# Altium integrated library Altera Cyclone III.IntLib: 225 symbols (part 38 of 50)
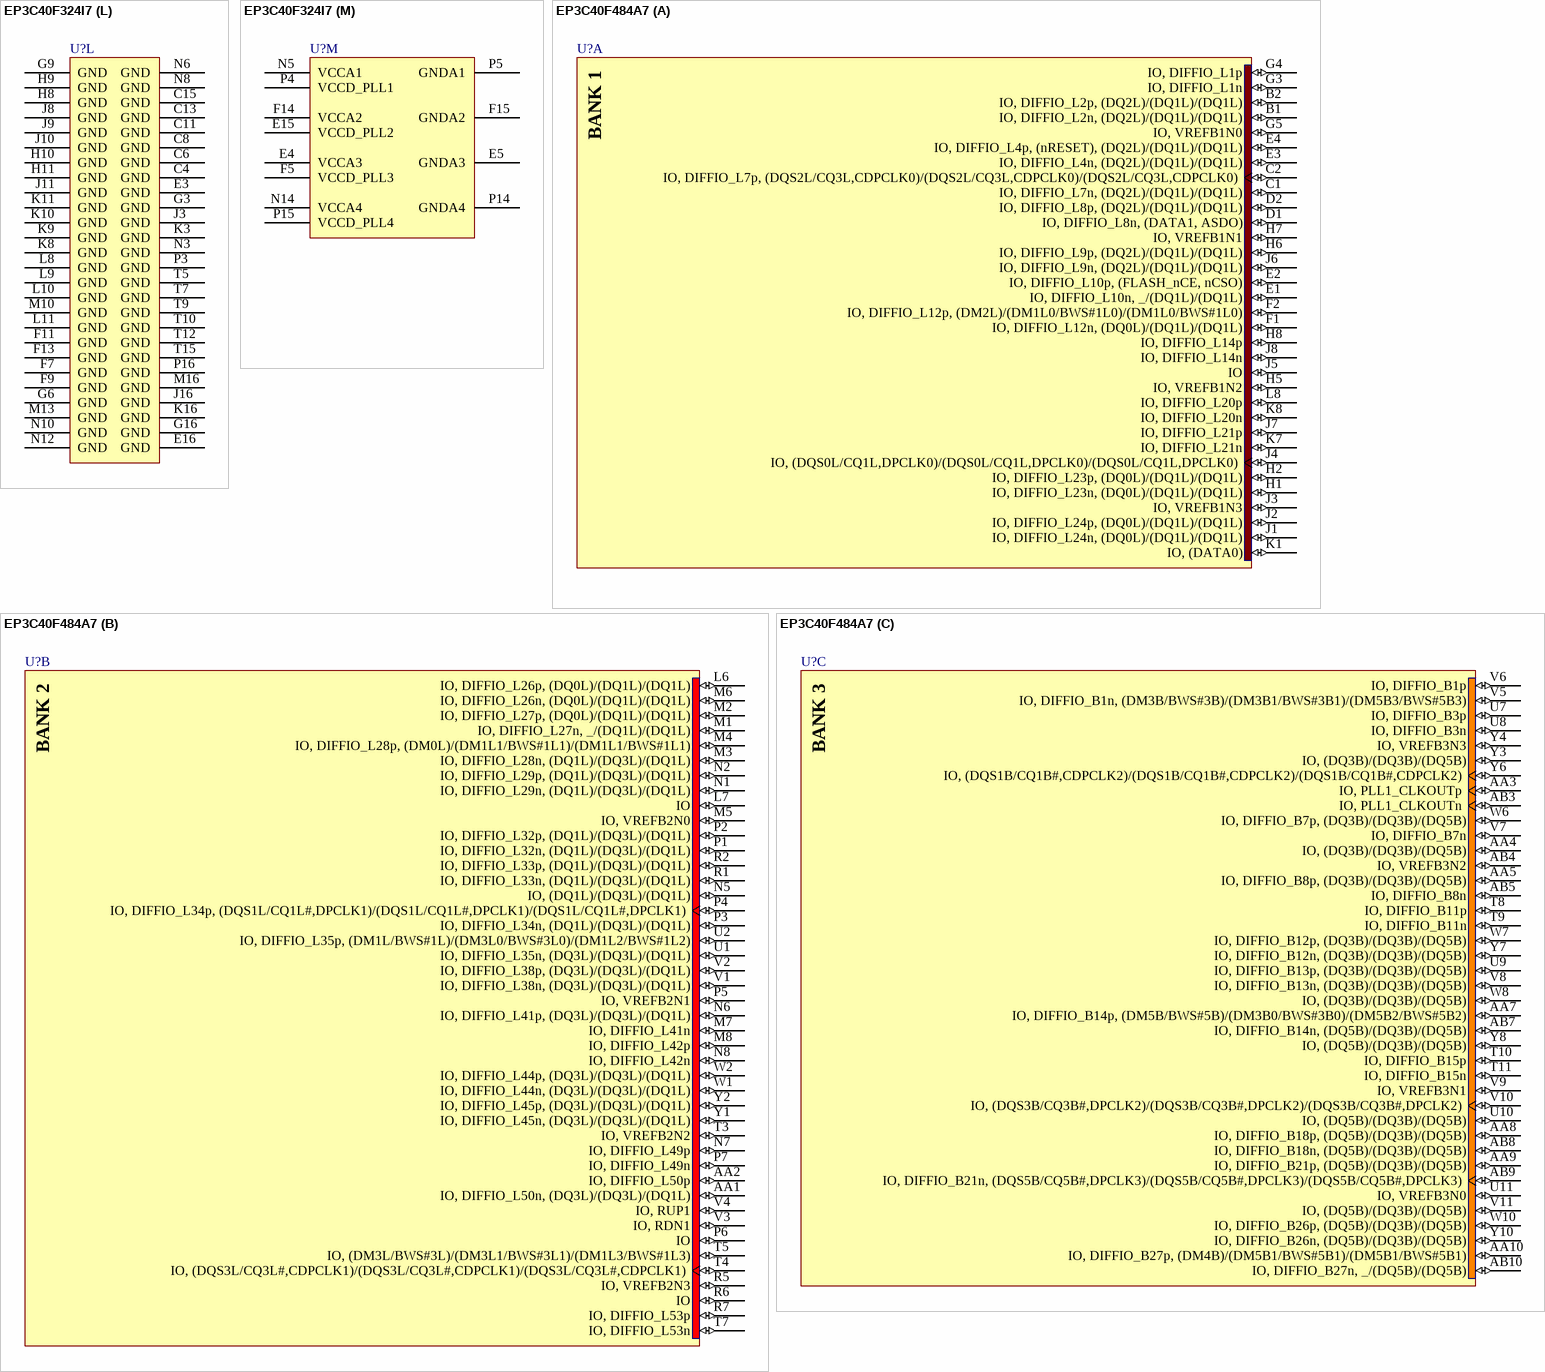
[diagram p522: symbols EP3C40F324I7 to EP3C40F484A7]

## EP3C40F324I7
designator U?
Cyclone III Family FPGA, 195 I/O Pins, 4 PLLs, 324-Pin FBGA, Speed Grade 7, Industrial Grade; Published: 26-Feb-2007; DatasheetVersion: ver2.0, May-2008; PackageVersion: ver16.0, Dec-2009; PackageReference: FBGA324; Publisher: Altium Limited; PackageDescription: 324-Ball FineLine Ball Grid Array (FBGA324) - Wire Bond; Supplier 1: Digi-Key; Supplier Part Number 1: EP3C40F324I7-ND; Code_JEDEC: MS-034-AAG-1; Code_IPC: BGA100P18X18-324; ComponentLink1Description: Manufacturer Link; ComponentLink1URL: http://www.altera.com/; ComponentLink2Description: Handbook (7.86MB); ComponentLink2URL: http://www.altera.com/literature/hb/cyc3/cyclone3_handbook.pdf; ComponentLink3Description: Packaging Specification; ComponentLink3URL: http://www.altera.com/literature/ds/dspkg.pdf
footprint FBGA324 (BGA, 324-Leads, Body 19x19mm, Pitch 1mm)
3D model EP3C40-FBGA324 (324-Ball FineLine Ball Grid Array (FBGA324) - Wire Bond)
signal-integrity model EP3C40_F324 (Cyclone III)
part A pins: B1 IO, DIFFIO_L1n (io), B2 IO, DIFFIO_L1p, (DQ1L)/(DQ1L) (io), C1 IO, (DQ1L)/(DQ1L) (io), C2 IO, VREFB1N0 (io), C3 IO, (nRESET) (io), D1 IO, DIFFIO_L8n, (DATA1, ASDO) (io), D2 IO, DIFFIO_L8p, (DQ1L)/(DQ1L) (io), D3 IO, (DQS2L/CQ3L,CDPCLK0)/(DQS2L/CQ3L,CDPCLK0) (io), E1 IO, DIFFIO_L10n, (DQ1L)/(DQ1L) (io), E2 IO, DIFFIO_L10p, (FLASH_nCE, nCSO) (io), F3 IO, VREFB1N1 (io), G1 IO, DIFFIO_L20n, (DQ1L)/(DQ1L) (io), G2 IO, DIFFIO_L20p, (DQ1L)/(DQ1L) (io), H1 IO, VREFB1N3 (io), H2 IO, (DQS0L/CQ1L,DPCLK0)/(DQS0L/CQ1L,DPCLK0) (io), H3 IO, (DATA0) (io), H6 IO, VREFB1N2 (io)
part B pins: K1 IO, DIFFIO_L26n, (DQ1L)/(DQ1L) (io), K2 IO, DIFFIO_L26p, (DQ1L)/(DQ1L) (io), K5 IO, DIFFIO_L28p, (DQ1L)/(DQ1L) (io), L1 IO, DIFFIO_L32n, (DQ3L)/(DQ1L) (io), L2 IO, DIFFIO_L32p, (DQ3L)/(DQ1L) (io), L3 IO, DIFFIO_L33n, (DQ3L)/(DQ1L) (io), L4 IO, DIFFIO_L33p, (DQ3L)/(DQ1L) (io), L5 IO, DIFFIO_L28n, (DM1L/BWS#1L)/(DM1L0/BWS#1L0) (io), L6 IO, VREFB2N0 (io), M1 IO, DIFFIO_L34n (io), M2 IO, DIFFIO_L34p, (DQS1L/CQ1L#,DPCLK1)/(DQS1L/CQ1L#,DPCLK1) (io), M3 IO, VREFB2N1 (io), M5 IO, (DQS3L/CQ3L#,CDPCLK1)/(DQS3L/CQ3L#,CDPCLK1) (io), P1 IO, DIFFIO_L44n, (DQ3L)/(DQ1L) (io), P2 IO, DIFFIO_L44p, (DQ3L)/(DQ1L) (io), R1 IO, VREFB2N2 (io), R2 IO, (DQ3L)/(DQ1L) (io), R3 IO, DIFFIO_L52n, (DQ3L)/(DQ1L) (io), R4 IO, (DM3L/BWS#3L)/(DM1L1/BWS#1L1) (io), R5 IO, VREFB2N3 (io), T1 IO, RDN1 (io), T2 IO, RUP1 (io), T3 IO, DIFFIO_L52p, (DQ3L)/(DQ1L) (io)
part C pins: P6 IO, (DQS1B/CQ1B#,CDPCLK2)/(DQS1B/CQ1B#,CDPCLK2) (io), P7 IO, VREFB3N1 (io), P8 IO, VREFB3N0 (io), P9 IO, (DQ3B)/(DQ5B) (io), R8 IO, DIFFIO_B21p, (DQ3B)/(DQ5B) (io), T4 IO, VREFB3N3 (io), T6 IO, VREFB3N2 (io), T8 IO, DIFFIO_B21n, (DQS5B/CQ5B#,DPCLK3)/(DQS5B/CQ5B#,DPCLK3) (io), U1 IO, DIFFIO_B1p (io), U2 IO, PLL1_CLKOUTp (io), U3 IO, DIFFIO_B16p, (DQS3B/CQ3B#,DPCLK2)/(DQS3B/CQ3B#,DPCLK2) (io), U4 IO, DIFFIO_B17p, (DQ3B)/(DQ5B) (io), U5 IO, DIFFIO_B18p (io), U6 IO, DIFFIO_B24p, (DQ3B)/(DQ5B) (io), U7 IO, DIFFIO_B26p (io), U8 IO, DIFFIO_B27p, (DQ3B)/(DQ5B) (io), V1 IO, DIFFIO_B1n (io), V2 IO, PLL1_CLKOUTn (io), V3 IO, DIFFIO_B16n, (DM3B/BWS#3B)/(DM5B1/BWS#5B1) (io), V4 IO, DIFFIO_B17n, (DQ3B)/(DQ5B) (io), V5 IO, DIFFIO_B18n, (DQ3B)/(DQ5B) (io), V6 IO, DIFFIO_B24n, (DQ3B)/(DQ5B) (io), V7 IO, DIFFIO_B26n, (DQ3B)/(DQ5B) (io), V8 IO, DIFFIO_B27n, (DM5B/BWS#5B)/(DM5B0/BWS#5B0) (io)
part D pins: P10 IO, DIFFIO_B33p, (DQ5B)/(DQ5B) (io), P11 IO, DIFFIO_B33n (io), P12 IO, (DQS2B/CQ3B,DPCLK5)/(DQS2B/CQ3B,DPCLK5) (io), P13 IO, VREFB4N0 (io), R11 IO, (DQ5B)/(DQ5B) (io), R13 IO, (DQS0B/CQ1B,CDPCLK3)/(DQS0B/CQ1B,CDPCLK3) (io), T11 IO, VREFB4N2 (io), T13 IO, RUP2 (io), T14 IO, RDN2 (io), U11 IO, DIFFIO_B28p, (DQ5B)/(DQ5B) (io), U12 IO, (DQ5B)/(DQ5B) (io), U13 IO, DIFFIO_B32p, (DQ5B)/(DQ5B) (io), U14 IO, DIFFIO_B34p, (DQ5B)/(DQ5B) (io), U15 IO, DIFFIO_B35p (io), U16 IO, VREFB4N1 (io), U17 IO, DIFFIO_B47p (io), U18 IO, PLL4_CLKOUTp (io), V11 IO, DIFFIO_B28n (io), V12 IO, VREFB4N3 (io), V13 IO, DIFFIO_B32n, (DQS4B/CQ5B,DPCLK4)/(DQS4B/CQ5B,DPCLK4) (io), V14 IO, DIFFIO_B34n, (DQ5B)/(DQ5B) (io), V15 IO, DIFFIO_B35n, (DQ5B)/(DQ5B) (io), V16 IO, (DQ5B)/(DQ5B) (io), V17 IO, DIFFIO_B47n (io), V18 IO, PLL4_CLKOUTn (io)
part E pins: K17 IO, DIFFIO_R29p, (DQ1R)/(DQ1R) (io), K18 IO, DIFFIO_R29n, (DM1R/BWS#1R)/(DM1R0/BWS#1R0) (io), L13 IO, DIFFIO_R38p, (DQ3R)/(DQ1R) (io), L14 IO, DIFFIO_R36p, (DQ3R)/(DQ1R) (io), L15 IO, DIFFIO_R36n, (DQ3R)/(DQ1R) (io), L16 IO, DIFFIO_R33p, (DQS1R/CQ1R#,DPCLK6)/(DQS1R/CQ1R#,DPCLK6) (io), L17 IO, DIFFIO_R32p, (DEV_CLRn) (io), L18 IO, VREFB5N0 (io), M14 IO, DIFFIO_R38n, (DQ3R)/(DQ1R) (io), M17 IO, DIFFIO_R33n, (DQ3R)/(DQ1R) (io), M18 IO, DIFFIO_R32n, (DEV_OE) (io), N15 IO, (DM3R/BWS#3R)/(DM1R1/BWS#1R1) (io), N16 IO, VREFB5N1 (io), P17 IO, DIFFIO_R42p, (DQ3R)/(DQ1R) (io), P18 IO, DIFFIO_R42n, (DQ3R)/(DQ1R) (io), R16 IO, RDN3 (io), R17 IO, VREFB5N2 (io), R18 IO, VREFB5N3 (io), T16 IO, RUP3, (DQ3R)/(DQ1R) (io), T17 IO, (DQ3R)/(DQ1R) (io), T18 IO, (DQS3R/CQ3R#,CDPCLK4)/(DQS3R/CQ3R#,CDPCLK4) (io)
part F pins: B17 IO, VREFB6N0 (io), B18 IO, (PADD20), (DQS2R/CQ3R,CDPCLK5)/(DQS2R/CQ3R,CDPCLK5) (io), C17 IO, DIFFIO_R5p, (PADD21), (DQ1R)/(DQ1R) (io), C18 IO, DIFFIO_R5n, (PADD22), (DQ1R)/(DQ1R) (io), D17 IO, DIFFIO_R12p, (nOE), (DQ1R)/(DQ1R) (io), D18 IO, DIFFIO_R12n, (nWE), (DQ1R)/(DQ1R) (io), E17 IO, DIFFIO_R24p, (CLKUSR) (io), E18 IO, DIFFIO_R24n, (nCEO) (io), G14 IO, (PADD23), (DQ1R)/(DQ1R) (io), G17 IO, DIFFIO_R27p, (CRC_ERROR) (io), G18 IO, DIFFIO_R27n, (INIT_DONE) (io), H13 IO, DIFFIO_R8p, (RDY), (DQ1R)/(DQ1R) (io), H14 IO, DIFFIO_R8n, (nAVD), (DQ1R)/(DQ1R) (io), H15 IO, VREFB6N1 (io), H16 IO, (DQS0R/CQ1R,DPCLK7)/(DQS0R/CQ1R,DPCLK7) (io), H17 IO, (DQ1R)/(DQ1R) (io), H18 IO, VREFB6N2 (io), J13 IO, VREFB6N3 (io)
part G pins: A11 IO, DIFFIO_T29n, (PADD11), (DQ5T)/(DQ5T) (io), A12 IO, DIFFIO_T31n, (PADD9), (DQ5T)/(DQ5T) (io), A13 IO, DIFFIO_T35n, (PADD7) (io), A14 IO, DIFFIO_T36n, (PADD5), (DQ5T)/(DQ5T) (io), A15 IO, (PADD3), (DQ5T)/(DQ5T) (io), A16 IO, DIFFIO_T41n, (PADD1) (io), A17 IO, VREFB7N0 (io), A18 IO, (DQ5T)/(DQ5T) (io), B11 IO, DIFFIO_T29p, (PADD12), (DQS4T/CQ5T,DPCLK9)/(DQS4T/CQ5T,DPCLK9) (io), B12 IO, DIFFIO_T31p, (PADD10) (io), B13 IO, DIFFIO_T35p, (PADD8), (DQ5T)/(DQ5T) (io), B14 IO, DIFFIO_T36p, (PADD6), (DQ5T)/(DQ5T) (io), B15 IO, (PADD4), (DQS2T/CQ3T,DPCLK8)/(DQS2T/CQ3T,DPCLK8) (io), B16 IO, DIFFIO_T41p, (PADD2), (DQ5T)/(DQ5T) (io), C10 IO, DIFFIO_T27n, (PADD13), (DM5T/BWS#5T)/(DM5T0/BWS#5T0) (io), C12 IO, VREFB7N2 (io), C14 IO, PLL2_CLKOUTn (io), C16 IO, DIFFIO_T49n (io), D10 IO, DIFFIO_T27p, (PADD14) (io), D12 IO, VREFB7N1 (io), D14 IO, PLL2_CLKOUTp (io), D16 IO, DIFFIO_T49p, (DQS0T/CQ1T,CDPCLK6)/(DQS0T/CQ1T,CDPCLK6) (io), E11 IO, VREFB7N3 (io), E12 IO, (PADD0), (DQ5T)/(DQ5T) (io), E13 IO, RDN4 (io), E14 IO, RUP4 (io)
part H pins: A1 IO, PLL3_CLKOUTn (io), A2 IO, PLL3_CLKOUTp (io), A3 IO, DIFFIO_T4n, (DATA10), (DM3T/BWS#3T)/(DM5T1/BWS#5T1) (io), A4 IO, (DATA7), (DQ3T)/(DQ5T) (io), A5 IO, DIFFIO_T16n, (DATA14), (DQS3T/CQ3T#,DPCLK11)/(DQS3T/CQ3T#,DPCLK11) (io), A6 IO, DIFFIO_T18n, (PADD19), (DQ3T)/(DQ5T) (io), A7 IO, DIFFIO_T19n, (PADD18), (DQ3T)/(DQ5T) (io), A8 IO, DIFFIO_T20n, (DATA2), (DQ3T)/(DQ5T) (io), B3 IO, DIFFIO_T4p, (DATA11) (io), B4 IO, (DATA8) (io), B5 IO, DIFFIO_T16p, (DATA13) (io), B6 IO, DIFFIO_T18p, (DATA15) (io), B7 IO, DIFFIO_T19p, (DATA4), (DQ3T)/(DQ5T) (io), B8 IO, DIFFIO_T20p, (DATA3) (io), C5 IO, (DATA5), (DQ3T)/(DQ5T) (io), C7 IO, VREFB8N1 (io), C9 IO, DIFFIO_T24n, (PADD16), (DQ3T)/(DQ5T) (io), D5 IO, (DATA12), (DQS1T/CQ1T#,CDPCLK7)/(DQS1T/CQ1T#,CDPCLK7) (io), D7 IO, VREFB8N2 (io), D9 IO, DIFFIO_T24p, (PADD17), (DQS5T/CQ5T#,DPCLK10)/(DQS5T/CQ5T#,DPCLK10) (io), E6 IO, VREFB8N3 (io), E7 IO, (DATA9), (DQ3T)/(DQ5T) (io), E8 IO, (DATA6), (DQ3T)/(DQ5T) (io), E9 IO, VREFB8N0 (io), E10 IO, (PADD15) (io)
part I pins: A9 CLK10, DIFFCLK_4n (in), A10 CLK8, DIFFCLK_5n (in), B9 CLK11, DIFFCLK_4p (in), B10 CLK9, DIFFCLK_5p (in), F1 CLK1, DIFFCLK_0n (in), F2 CLK0, DIFFCLK_0p (in), F17 CLK4, DIFFCLK_2p (in), F18 CLK5, DIFFCLK_2n (in), N1 CLK3, DIFFCLK_1n (in), N2 CLK2, DIFFCLK_1p (in), N17 CLK6, DIFFCLK_3p (in), N18 CLK7, DIFFCLK_3n (in), U9 CLK15, DIFFCLK_6p (in), U10 CLK13, DIFFCLK_7p (in), V9 CLK14, DIFFCLK_6n (in), V10 CLK12, DIFFCLK_7n (in)
part J pins: G5 nSTATUS (io), H4 DCLK (io), H5 nCONFIG (in), J1 TCK (in), J2 TMS (in), J5 TDO (out), J6 TDI (in), J14 MSEL3 (in), J17 MSEL2 (in), J18 MSEL1 (in), K6 nCE (in), K13 MSEL0 (in), K14 CONF_DONE (io)
part K pins: D4 VCCIO8 (power), D6 VCCIO8 (power), D8 VCCIO8 (power), D11 VCCIO7 (power), D13 VCCIO7 (power), D15 VCCIO7 (power), F4 VCCIO1 (power), F6 VCCINT (power), F8 VCCINT (power), F10 VCCINT (power), F12 VCCINT (power), F16 VCCIO6 (power), G4 VCCIO1 (power), G7 VCCINT (power), G8 VCCINT (power), G10 VCCINT (power), G11 VCCINT (power), G12 VCCINT (power), G13 VCCINT (power), G15 VCCIO6 (power), H7 VCCINT (power), H12 VCCINT (power), J4 VCCIO1 (power), J7 VCCINT (power), J12 VCCINT (power), J15 VCCIO6 (power), K4 VCCIO2 (power), K7 VCCINT (power), K12 VCCINT (power), K15 VCCIO5 (power), L7 VCCINT (power), L12 VCCINT (power), M4 VCCIO2 (power), M6 VCCINT (power), M7 VCCINT (power), M8 VCCINT (power), M9 VCCINT (power), M11 VCCINT (power), M12 VCCINT (power), M15 VCCIO5 (power), N4 VCCIO2 (power), N7 VCCINT (power), N9 VCCINT (power), N11 VCCINT (power), N13 VCCINT (power), R6 VCCIO3 (power), R7 VCCIO3 (power), R9 VCCIO3 (power), R10 VCCIO4 (power), R12 VCCIO4 (power), R14 VCCIO4 (power), R15 VCCIO5 (power)
part L pins: C4 GND (power), C6 GND (power), C8 GND (power), C11 GND (power), C13 GND (power), C15 GND (power), E3 GND (power), E16 GND (power), F7 GND (power), F9 GND (power), F11 GND (power), F13 GND (power), G3 GND (power), G6 GND (power), G9 GND (power), G16 GND (power), H8 GND (power), H9 GND (power), H10 GND (power), H11 GND (power), J3 GND (power), J8 GND (power), J9 GND (power), J10 GND (power), J11 GND (power), J16 GND (power), K3 GND (power), K8 GND (power), K9 GND (power), K10 GND (power), K11 GND (power), K16 GND (power), L8 GND (power), L9 GND (power), L10 GND (power), L11 GND (power), M10 GND (power), M13 GND (power), M16 GND (power), N3 GND (power), N6 GND (power), N8 GND (power), N10 GND (power), N12 GND (power), P3 GND (power), P16 GND (power), T5 GND (power), T7 GND (power), T9 GND (power), T10 GND (power), T12 GND (power), T15 GND (power)
part M pins: E4 VCCA3 (power), E5 GNDA3 (power), E15 VCCD_PLL2 (power), F5 VCCD_PLL3 (power), F14 VCCA2 (power), F15 GNDA2 (power), N5 VCCA1 (power), N14 VCCA4 (power), P4 VCCD_PLL1 (power), P5 GNDA1 (power), P14 GNDA4 (power), P15 VCCD_PLL4 (power)
part A text: BANK 1
part B text: BANK 2
part C text: BANK 3
part D text: BANK 4
part E text: BANK 5
part F text: BANK 6
part G text: BANK 7
part H text: BANK 8

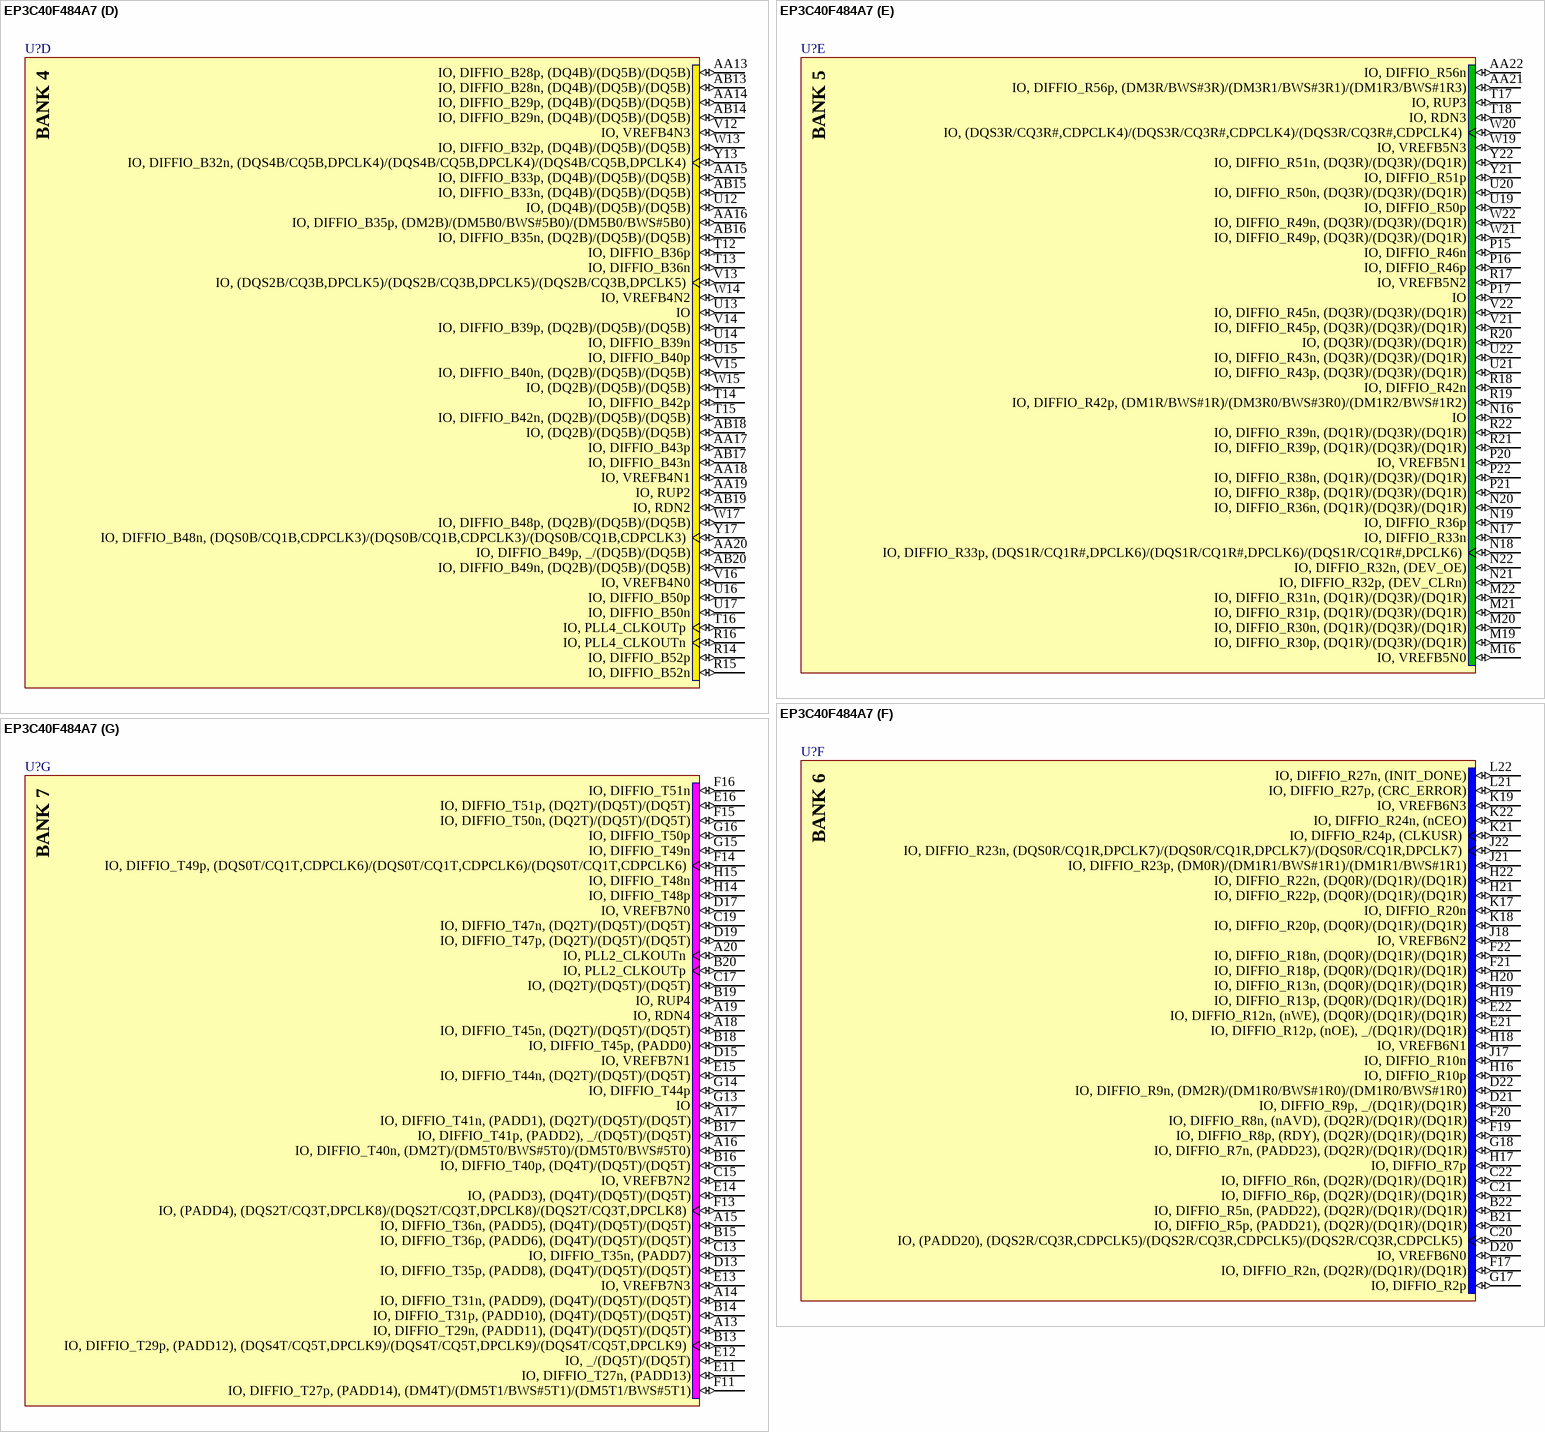
[diagram p179: symbol EP3C40F484A7]

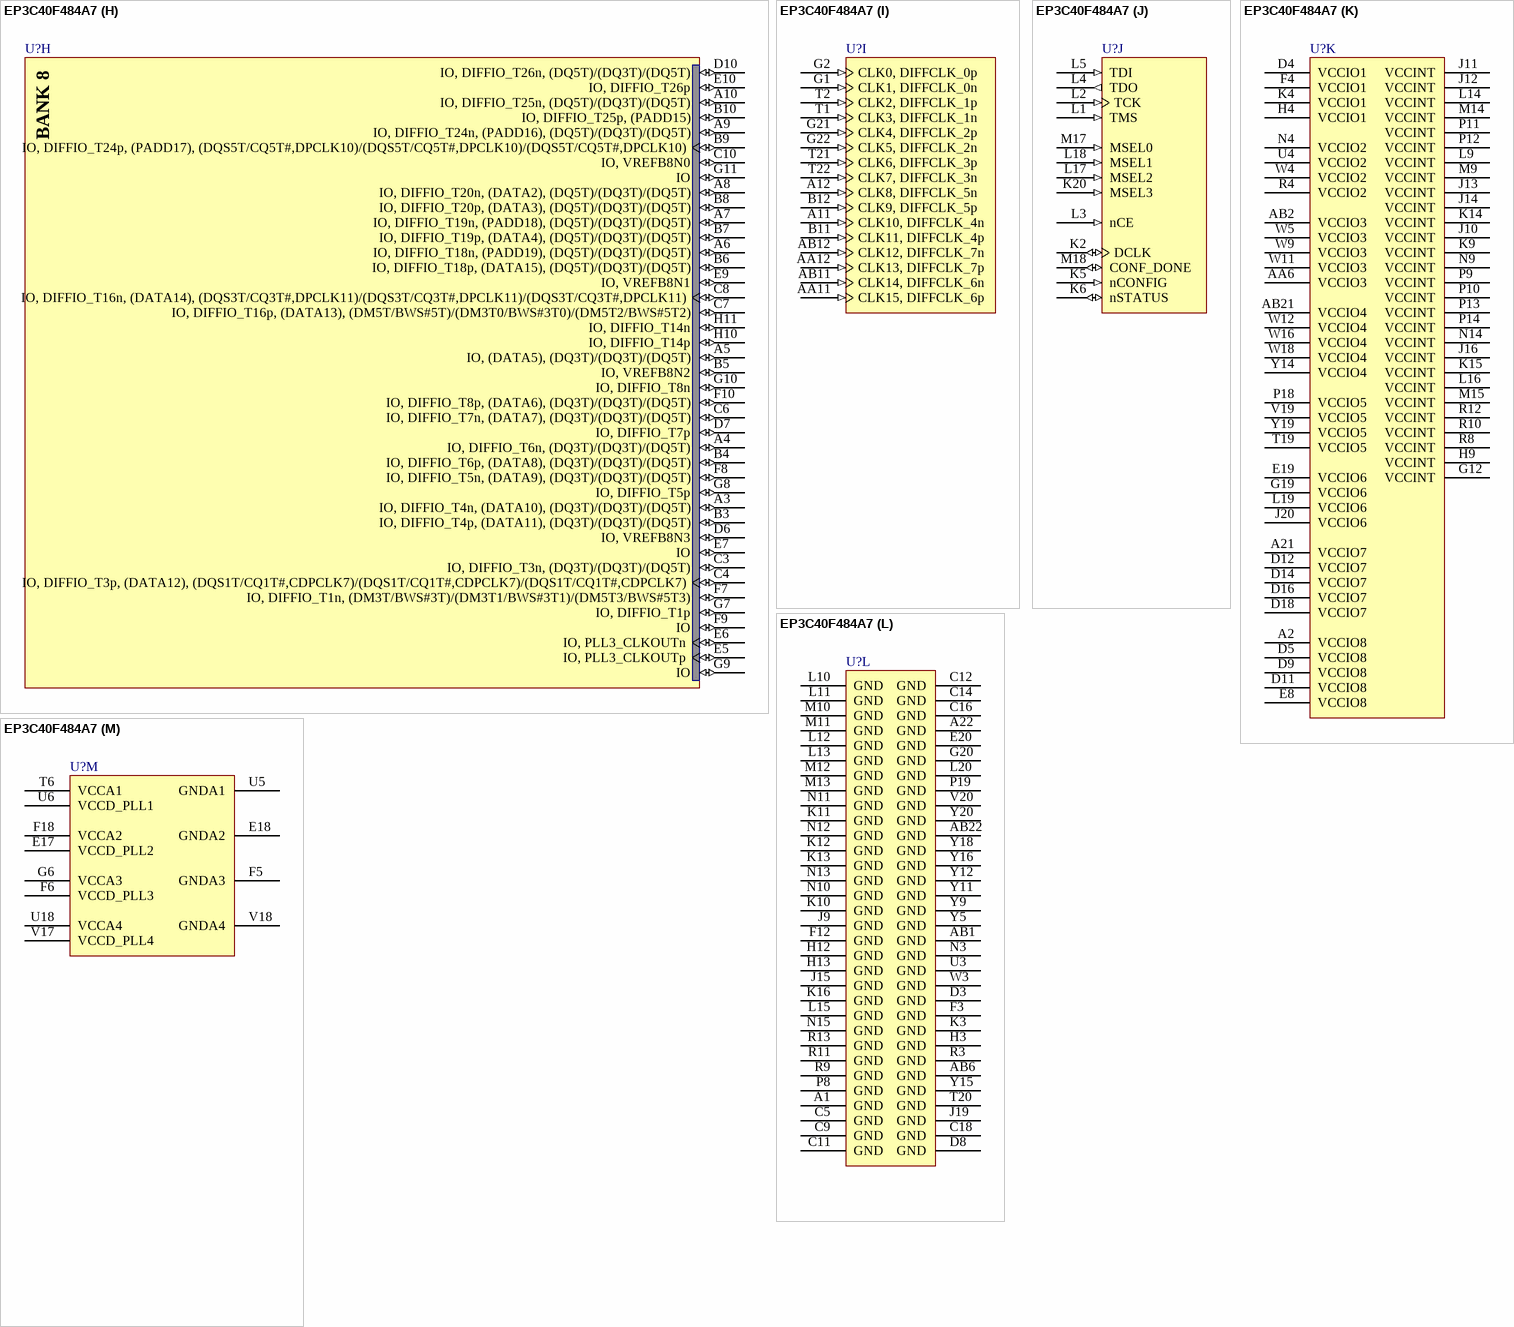
[diagram p180: symbol EP3C40F484A7]